# EAGLE library part ACQUA_A5 (library 000001)
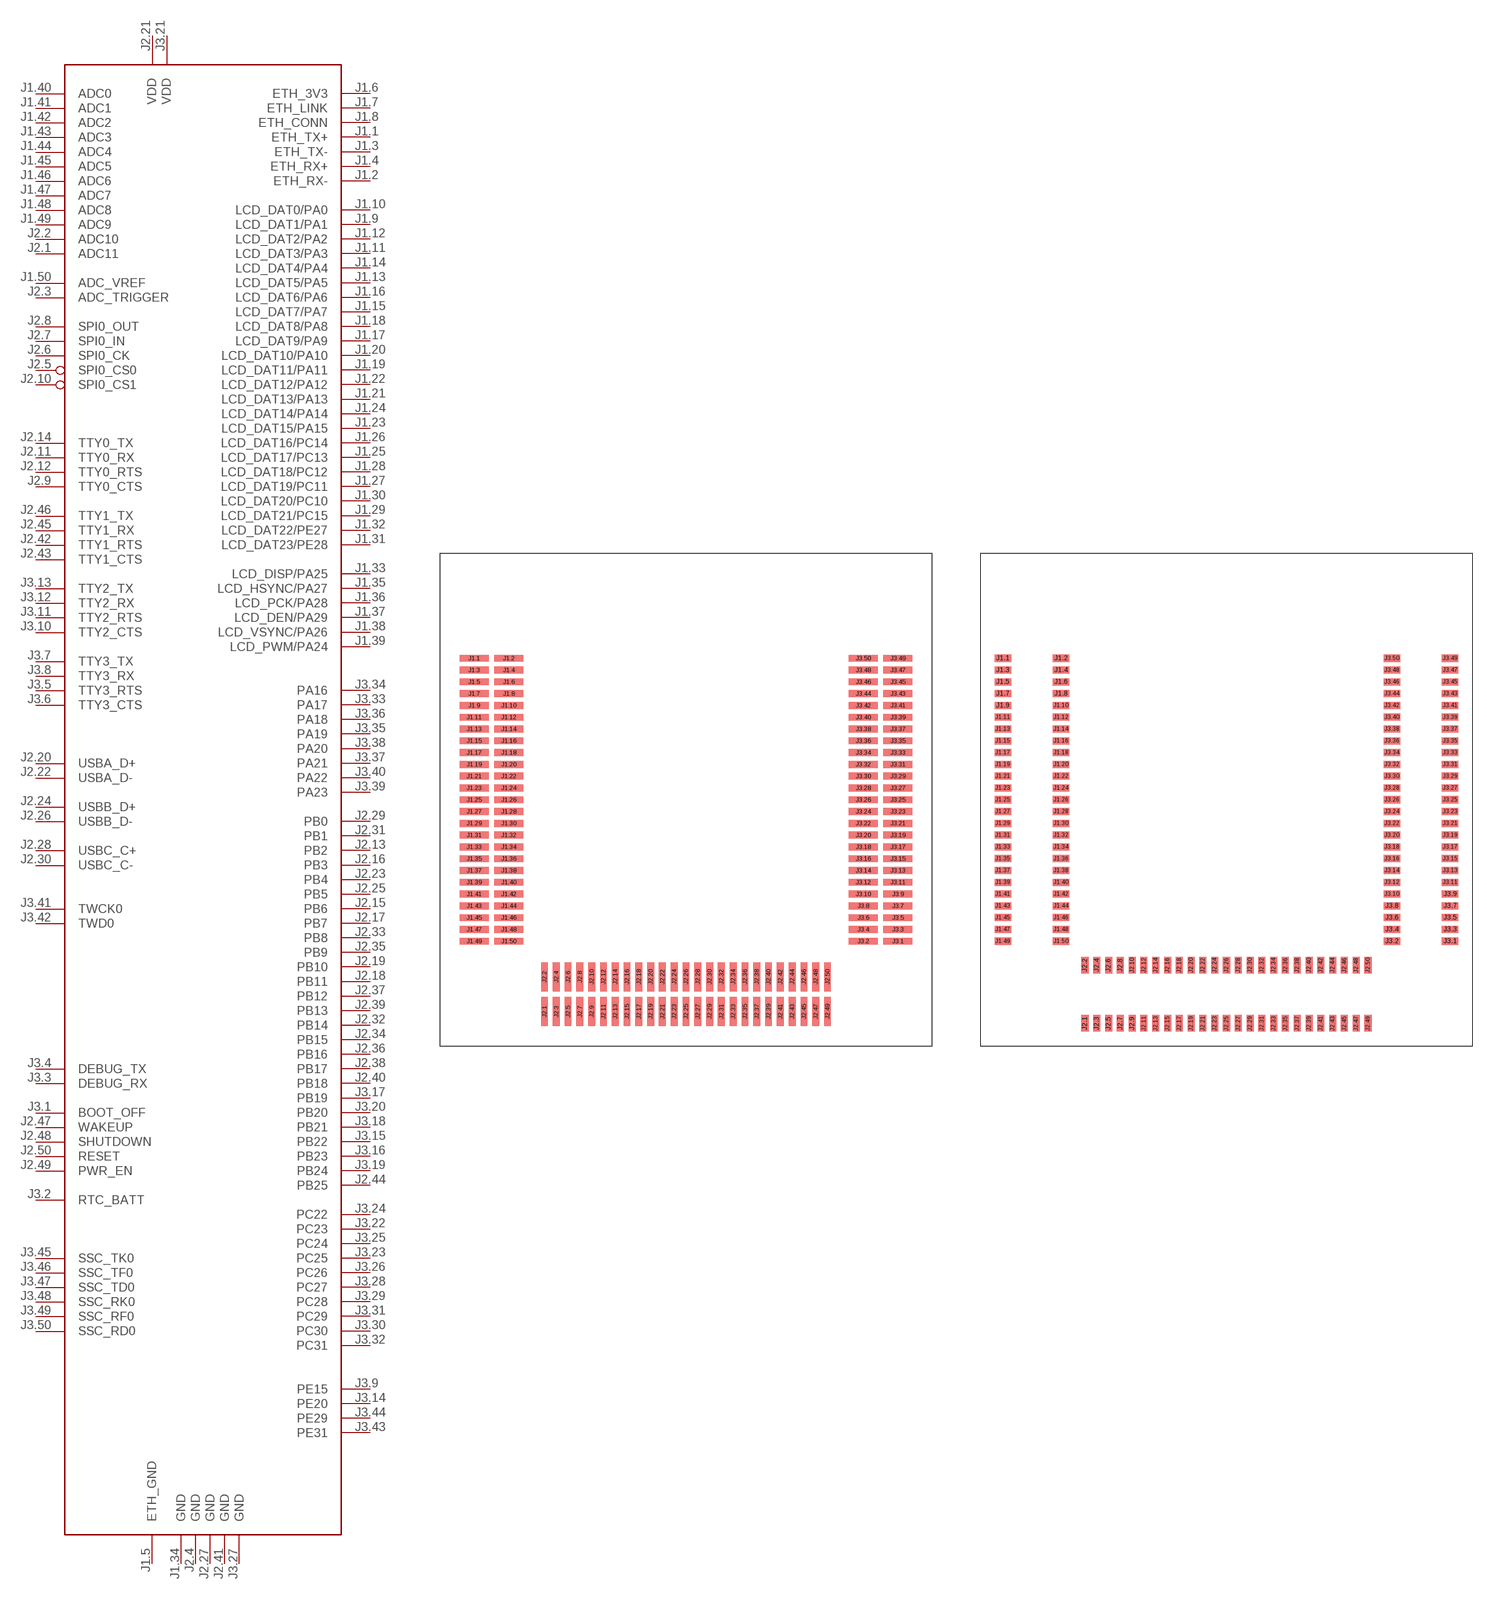
[diagram p130: symbol with the pads of ACQUA-A5; footprints ACQUA-A5, ACQUA-A5_PROTO]

Designator prefix -

## ACQUA_A5  [ACQUA-A5]
J1.1  ETH_TX+  out
J1.2  ETH_RX-  in
J1.3  ETH_TX-  out
J1.4  ETH_RX+  in
J1.5  ETH_GND  in
J1.6  ETH_3V3  pwr
J1.7  ETH_LINK  out
J1.8  ETH_CONN  out
J1.9  LCD_DAT1/PA1
J1.10  LCD_DAT0/PA0
J1.11  LCD_DAT3/PA3
J1.12  LCD_DAT2/PA2
J1.13  LCD_DAT5/PA5
J1.14  LCD_DAT4/PA4
J1.15  LCD_DAT7/PA7
J1.16  LCD_DAT6/PA6
J1.17  LCD_DAT9/PA9
J1.18  LCD_DAT8/PA8
J1.19  LCD_DAT11/PA11
J1.20  LCD_DAT10/PA10
J1.21  LCD_DAT13/PA13
J1.22  LCD_DAT12/PA12
J1.23  LCD_DAT15/PA15
J1.24  LCD_DAT14/PA14
J1.25  LCD_DAT17/PC13
J1.26  LCD_DAT16/PC14
J1.27  LCD_DAT19/PC11
J1.28  LCD_DAT18/PC12
J1.29  LCD_DAT21/PC15
J1.30  LCD_DAT20/PC10
J1.31  LCD_DAT23/PE28
J1.32  LCD_DAT22/PE27
J1.33  LCD_DISP/PA25
J1.34  GND  pwr
J1.35  LCD_HSYNC/PA27
J1.36  LCD_PCK/PA28
J1.37  LCD_DEN/PA29
J1.38  LCD_VSYNC/PA26
J1.39  LCD_PWM/PA24
J1.40  ADC0  in
J1.41  ADC1  in
J1.42  ADC2  in
J1.43  ADC3  in
J1.44  ADC4  in
J1.45  ADC5  in
J1.46  ADC6  in
J1.47  ADC7  in
J1.48  ADC8  in
J1.49  ADC9  in
J1.50  ADC_VREF  in
J2.1  ADC11  in
J2.2  ADC10  in
J2.3  ADC_TRIGGER  in
J2.4  GND  pwr
J2.5  SPI0_CS0  out
J2.6  SPI0_CK  out
J2.7  SPI0_IN  in
J2.8  SPI0_OUT  out
J2.9  TTY0_CTS
J2.10  SPI0_CS1  out
J2.11  TTY0_RX  in
J2.12  TTY0_RTS
J2.13  PB2
J2.14  TTY0_TX  out
J2.15  PB6
J2.16  PB3
J2.17  PB7
J2.18  PB11
J2.19  PB10
J2.20  USBA_D+
J2.21  VDD  pwr
J2.22  USBA_D-
J2.23  PB4
J2.24  USBB_D+
J2.25  PB5
J2.26  USBB_D-
J2.27  GND  pwr
J2.28  USBC_C+
J2.29  PB0
J2.30  USBC_C-
J2.31  PB1
J2.32  PB14
J2.33  PB8
J2.34  PB15
J2.35  PB9
J2.36  PB16
J2.37  PB12
J2.38  PB17
J2.39  PB13
J2.40  PB18
J2.41  GND  pwr
J2.42  TTY1_RTS
J2.43  TTY1_CTS
J2.44  PB25
J2.45  TTY1_RX  in
J2.46  TTY1_TX  out
J2.47  WAKEUP
J2.48  SHUTDOWN
J2.49  PWR_EN
J2.50  RESET
J3.1  BOOT_OFF
J3.2  RTC_BATT
J3.3  DEBUG_RX  in
J3.4  DEBUG_TX  out
J3.5  TTY3_RTS
J3.6  TTY3_CTS
J3.7  TTY3_TX  out
J3.8  TTY3_RX  in
J3.9  PE15
J3.10  TTY2_CTS
J3.11  TTY2_RTS
J3.12  TTY2_RX  in
J3.13  TTY2_TX  out
J3.14  PE20
J3.15  PB22
J3.16  PB23
J3.17  PB19
J3.18  PB21
J3.19  PB24
J3.20  PB20
J3.21  VDD  pwr
J3.22  PC23
J3.23  PC25
J3.24  PC22
J3.25  PC24
J3.26  PC26
J3.27  GND  pwr
J3.28  PC27
J3.29  PC28
J3.30  PC30
J3.31  PC29
J3.32  PC31
J3.33  PA17
J3.34  PA16
J3.35  PA19
J3.36  PA18
J3.37  PA21
J3.38  PA20
J3.39  PA23
J3.40  PA22
J3.41  TWCK0
J3.42  TWD0
J3.43  PE31
J3.44  PE29
J3.45  SSC_TK0
J3.46  SSC_TF0
J3.47  SSC_TD0
J3.48  SSC_RK0
J3.49  SSC_RF0
J3.50  SSC_RD0

## ACQUA_A5P  [ACQUA-A5_PROTO]
Pads as for ACQUA-A5

## Footprint ACQUA-A5 (pad centres in mm)
smd 3.124 x 0.737: J1.1 -22.822,15.24; J1.2 -19.088,15.24; J1.3 -22.822,13.97; J1.4 -19.088,13.97; J1.5 -22.822,12.7; J1.6 -19.088,12.7; J1.7 -22.822,11.43; J1.8 -19.088,11.43; J1.9 -22.822,10.16; J1.10 -19.088,10.16; J1.11 -22.822,8.89; J1.12 -19.088,8.89; J1.13 -22.822,7.62; J1.14 -19.088,7.62; J1.15 -22.822,6.35; J1.16 -19.088,6.35; J1.17 -22.822,5.08; J1.18 -19.088,5.08; J1.19 -22.822,3.81; J1.20 -19.088,3.81; J1.21 -22.822,2.54; J1.22 -19.088,2.54; J1.23 -22.822,1.27; J1.24 -19.088,1.27; J1.25 -22.822,0; J1.26 -19.088,0; J1.27 -22.822,-1.27; J1.28 -19.088,-1.27; J1.29 -22.822,-2.54; J1.30 -19.088,-2.54; J1.31 -22.822,-3.81; J1.32 -19.088,-3.81; J1.33 -22.822,-5.08; J1.34 -19.088,-5.08; J1.35 -22.822,-6.35; J1.36 -19.088,-6.35; J1.37 -22.822,-7.62; J1.38 -19.088,-7.62; J1.39 -22.822,-8.89; J1.40 -19.088,-8.89; J1.41 -22.822,-10.16; J1.42 -19.088,-10.16; J1.43 -22.822,-11.43; J1.44 -19.088,-11.43; J1.45 -22.822,-12.7; J1.46 -19.088,-12.7; J1.47 -22.822,-13.97; J1.48 -19.088,-13.97; J1.49 -22.822,-15.24; J1.50 -19.088,-15.24; J3.1 22.822,-15.24; J3.2 19.088,-15.24; J3.3 22.822,-13.97; J3.4 19.088,-13.97; J3.5 22.822,-12.7; J3.6 19.088,-12.7; J3.7 22.822,-11.43; J3.8 19.088,-11.43; J3.9 22.822,-10.16; J3.10 19.088,-10.16; J3.11 22.822,-8.89; J3.12 19.088,-8.89; J3.13 22.822,-7.62; J3.14 19.088,-7.62; J3.15 22.822,-6.35; J3.16 19.088,-6.35; J3.17 22.822,-5.08; J3.18 19.088,-5.08; J3.19 22.822,-3.81; J3.20 19.088,-3.81; J3.21 22.822,-2.54; J3.22 19.088,-2.54; J3.23 22.822,-1.27; J3.24 19.088,-1.27; J3.25 22.822,0; J3.26 19.088,0; J3.27 22.822,1.27; J3.28 19.088,1.27; J3.29 22.822,2.54; J3.30 19.088,2.54; J3.31 22.822,3.81; J3.32 19.088,3.81; J3.33 22.822,5.08; J3.34 19.088,5.08; J3.35 22.822,6.35; J3.36 19.088,6.35; J3.37 22.822,7.62; J3.38 19.088,7.62; J3.39 22.822,8.89; J3.40 19.088,8.89; J3.41 22.822,10.16; J3.42 19.088,10.16; J3.43 22.822,11.43; J3.44 19.088,11.43; J3.45 22.822,12.7; J3.46 19.088,12.7; J3.47 22.822,13.97; J3.48 19.088,13.97; J3.49 22.822,15.24; J3.50 19.088,15.24
smd 0.737 x 3.124: J2.1 -15.24,-22.822; J2.2 -15.24,-19.088; J2.3 -13.97,-22.822; J2.4 -13.97,-19.088; J2.5 -12.7,-22.822; J2.6 -12.7,-19.088; J2.7 -11.43,-22.822; J2.8 -11.43,-19.088; J2.9 -10.16,-22.822; J2.10 -10.16,-19.088; J2.11 -8.89,-22.822; J2.12 -8.89,-19.088; J2.13 -7.62,-22.822; J2.14 -7.62,-19.088; J2.15 -6.35,-22.822; J2.16 -6.35,-19.088; J2.17 -5.08,-22.822; J2.18 -5.08,-19.088; J2.19 -3.81,-22.822; J2.20 -3.81,-19.088; J2.21 -2.54,-22.822; J2.22 -2.54,-19.088; J2.23 -1.27,-22.822; J2.24 -1.27,-19.088; J2.25 0,-22.822; J2.26 0,-19.088; J2.27 1.27,-22.822; J2.28 1.27,-19.088; J2.29 2.54,-22.822; J2.30 2.54,-19.088; J2.31 3.81,-22.822; J2.32 3.81,-19.088; J2.33 5.08,-22.822; J2.34 5.08,-19.088; J2.35 6.35,-22.822; J2.36 6.35,-19.088; J2.37 7.62,-22.822; J2.38 7.62,-19.088; J2.39 8.89,-22.822; J2.40 8.89,-19.088; J2.41 10.16,-22.822; J2.42 10.16,-19.088; J2.43 11.43,-22.822; J2.44 11.43,-19.088; J2.45 12.7,-22.822; J2.46 12.7,-19.088; J2.47 13.97,-22.822; J2.48 13.97,-19.088; J2.49 15.24,-22.822; J2.50 15.24,-19.088

## Footprint ACQUA-A5_PROTO (pad centres in mm)
smd 1.778 x 0.76: J1.1 -24.092,15.24; J1.2 -17.818,15.24; J1.3 -24.092,13.97; J1.4 -17.818,13.97; J1.5 -24.092,12.7; J1.6 -17.818,12.7; J1.7 -24.092,11.43; J1.8 -17.818,11.43; J1.9 -24.092,10.16; J1.10 -17.818,10.16; J1.11 -24.092,8.89; J1.12 -17.818,8.89; J1.13 -24.092,7.62; J1.14 -17.818,7.62; J1.15 -24.092,6.35; J1.16 -17.818,6.35; J1.17 -24.092,5.08; J1.18 -17.818,5.08; J1.19 -24.092,3.81; J1.20 -17.818,3.81; J1.21 -24.092,2.54; J1.22 -17.818,2.54; J1.23 -24.092,1.27; J1.24 -17.818,1.27; J1.25 -24.092,0; J1.26 -17.818,0; J1.27 -24.092,-1.27; J1.28 -17.818,-1.27; J1.29 -24.092,-2.54; J1.30 -17.818,-2.54; J1.31 -24.092,-3.81; J1.32 -17.818,-3.81; J1.33 -24.092,-5.08; J1.34 -17.818,-5.08; J1.35 -24.092,-6.35; J1.36 -17.818,-6.35; J1.37 -24.092,-7.62; J1.38 -17.818,-7.62; J1.39 -24.092,-8.89; J1.40 -17.818,-8.89; J1.41 -24.092,-10.16; J1.42 -17.818,-10.16; J1.43 -24.092,-11.43; J1.44 -17.818,-11.43; J1.45 -24.092,-12.7; J1.46 -17.818,-12.7; J1.47 -24.092,-13.97; J1.48 -17.818,-13.97; J1.49 -24.092,-15.24; J1.50 -17.818,-15.24; J3.1 24.092,-15.24; J3.2 17.818,-15.24; J3.3 24.092,-13.97; J3.4 17.818,-13.97; J3.5 24.092,-12.7; J3.6 17.818,-12.7; J3.7 24.092,-11.43; J3.8 17.818,-11.43; J3.9 24.092,-10.16; J3.10 17.818,-10.16; J3.11 24.092,-8.89; J3.12 17.818,-8.89; J3.13 24.092,-7.62; J3.14 17.818,-7.62; J3.15 24.092,-6.35; J3.16 17.818,-6.35; J3.17 24.092,-5.08; J3.18 17.818,-5.08; J3.19 24.092,-3.81; J3.20 17.818,-3.81; J3.21 24.092,-2.54; J3.22 17.818,-2.54; J3.23 24.092,-1.27; J3.24 17.818,-1.27; J3.25 24.092,0; J3.26 17.818,0; J3.27 24.092,1.27; J3.28 17.818,1.27; J3.29 24.092,2.54; J3.30 17.818,2.54; J3.31 24.092,3.81; J3.32 17.818,3.81; J3.33 24.092,5.08; J3.34 17.818,5.08; J3.35 24.092,6.35; J3.36 17.818,6.35; J3.37 24.092,7.62; J3.38 17.818,7.62; J3.39 24.092,8.89; J3.40 17.818,8.89; J3.41 24.092,10.16; J3.42 17.818,10.16; J3.43 24.092,11.43; J3.44 17.818,11.43; J3.45 24.092,12.7; J3.46 17.818,12.7; J3.47 24.092,13.97; J3.48 17.818,13.97; J3.49 24.092,15.24; J3.50 17.818,15.24
smd 0.76 x 1.778: J2.1 -15.24,-24.092; J2.2 -15.24,-17.818; J2.3 -13.97,-24.092; J2.4 -13.97,-17.818; J2.5 -12.7,-24.092; J2.6 -12.7,-17.818; J2.7 -11.43,-24.092; J2.8 -11.43,-17.818; J2.9 -10.16,-24.092; J2.10 -10.16,-17.818; J2.11 -8.89,-24.092; J2.12 -8.89,-17.818; J2.13 -7.62,-24.092; J2.14 -7.62,-17.818; J2.15 -6.35,-24.092; J2.16 -6.35,-17.818; J2.17 -5.08,-24.092; J2.18 -5.08,-17.818; J2.19 -3.81,-24.092; J2.20 -3.81,-17.818; J2.21 -2.54,-24.092; J2.22 -2.54,-17.818; J2.23 -1.27,-24.092; J2.24 -1.27,-17.818; J2.25 0,-24.092; J2.26 0,-17.818; J2.27 1.27,-24.092; J2.28 1.27,-17.818; J2.29 2.54,-24.092; J2.30 2.54,-17.818; J2.31 3.81,-24.092; J2.32 3.81,-17.818; J2.33 5.08,-24.092; J2.34 5.08,-17.818; J2.35 6.35,-24.092; J2.36 6.35,-17.818; J2.37 7.62,-24.092; J2.38 7.62,-17.818; J2.39 8.89,-24.092; J2.40 8.89,-17.818; J2.41 10.16,-24.092; J2.42 10.16,-17.818; J2.43 11.43,-24.092; J2.44 11.43,-17.818; J2.45 12.7,-24.092; J2.46 12.7,-17.818; J2.47 13.97,-24.092; J2.48 13.97,-17.818; J2.49 15.24,-24.092; J2.50 15.24,-17.818